# Altium footprint library ABM11.PcbLib: 1 footprints
Each footprint in its own frame and in the unit in brackets; x right, y up, seen from the top. Pads: shape width x height; smd on the part's side, far side on the other; paste and mask are expansions set on the pad; w line width, h text height; cw(c..) or ccw(c..) is an arc to the next point about the centre after c.
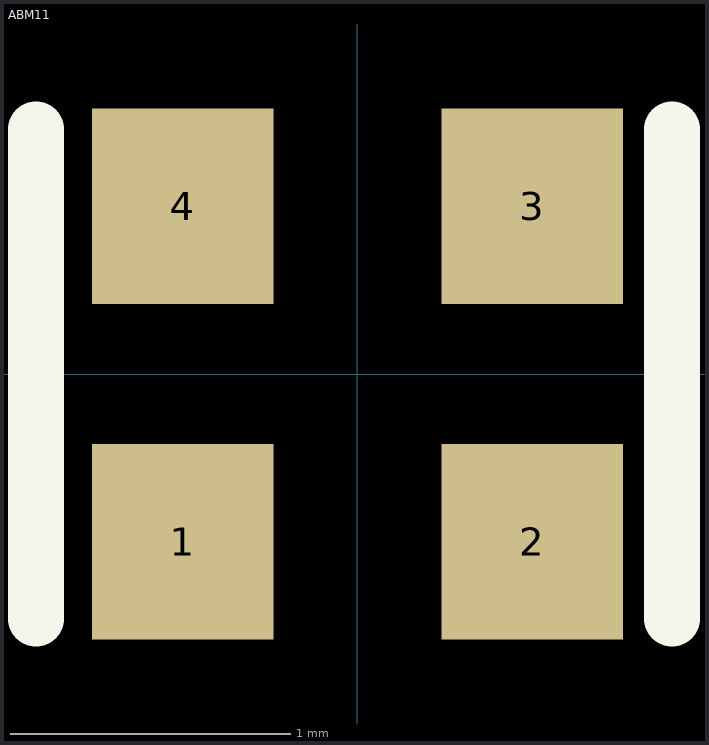
[diagram p0: the footprint, top view; thin cyan lines are the x and y axes]

## ABM11 [mm]
pads (4):
  rect 0.65x0.7 smd: 1(-0.625,-0.6) 2(0.625,-0.6) 3(0.625,0.6) 4(-0.625,0.6)
Top Overlay:
  lines w0.2: -1.15,-0.875 -1.15,0.875 ; 1.125,-0.875 1.125,0.875
3D body: height 0.59, standoff 0, extent -1,-0.8 1,0.8